# EAGLE library part PIC32MX450F256L-80I_PT (library zenpirate)
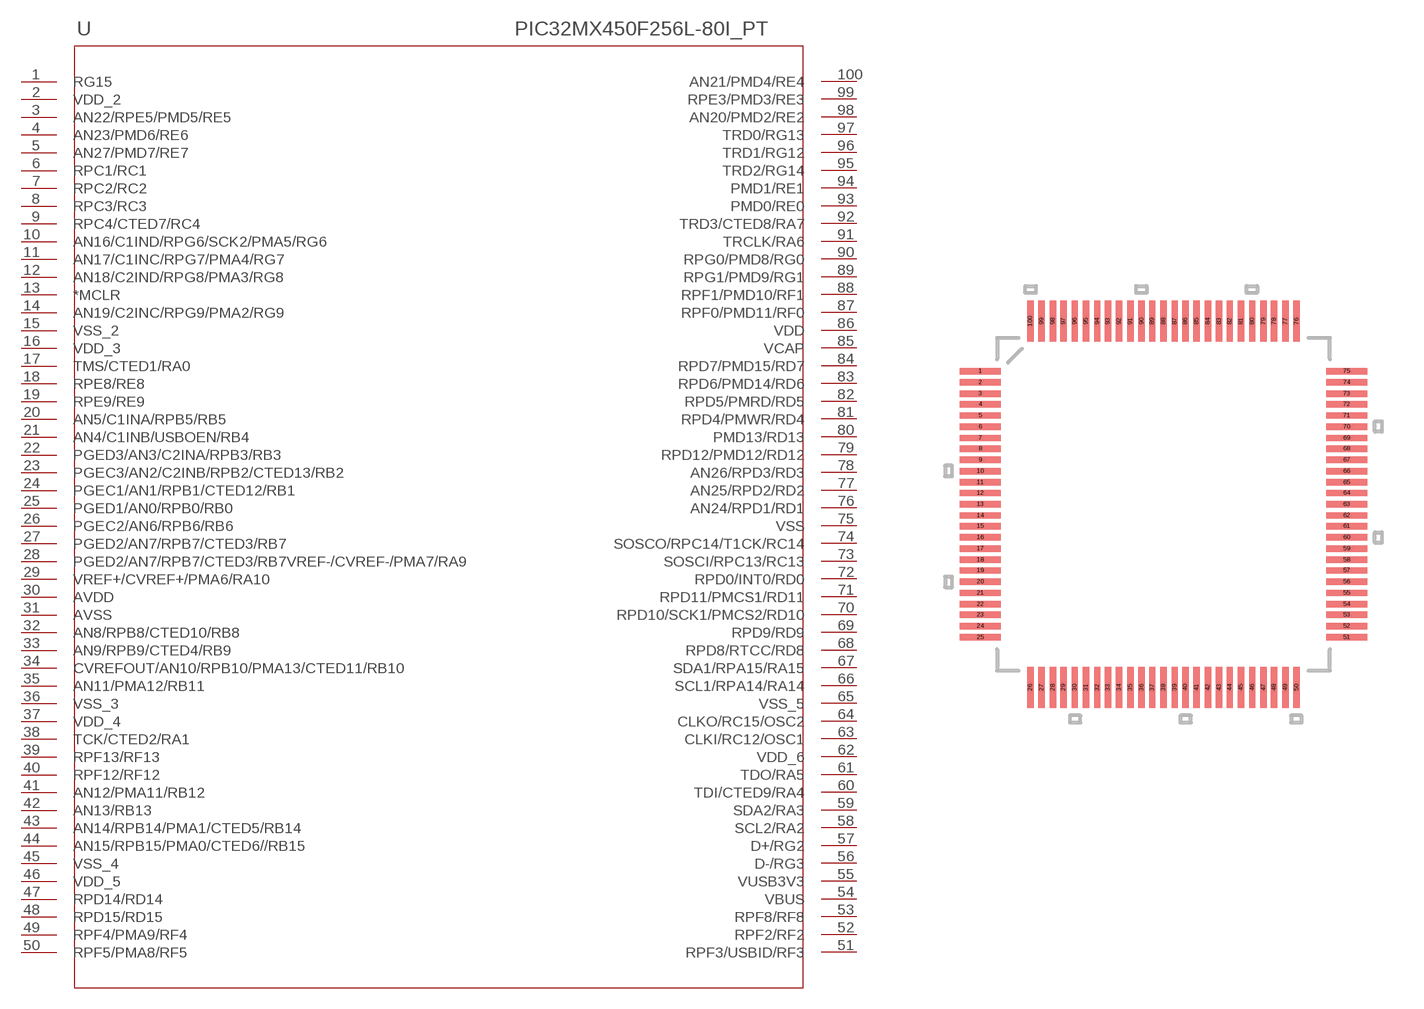
[diagram p3: symbol with the pads of TQFP100_12X12MC; footprint TQFP100_12X12MC]

Designator prefix U

## PIC32MX450F256L-80I_PT  [TQFP100_12X12MC]
1  RG15
2  VDD_2  pwr
3  AN22/RPE5/PMD5/RE5
4  AN23/PMD6/RE6
5  AN27/PMD7/RE7
6  RPC1/RC1
7  RPC2/RC2
8  RPC3/RC3
9  RPC4/CTED7/RC4
10  AN16/C1IND/RPG6/SCK2/PMA5/RG6
11  AN17/C1INC/RPG7/PMA4/RG7
12  AN18/C2IND/RPG8/PMA3/RG8
13  *MCLR  in
14  AN19/C2INC/RPG9/PMA2/RG9
15  VSS_2  pwr
16  VDD_3  pwr
17  TMS/CTED1/RA0
18  RPE8/RE8
19  RPE9/RE9
20  AN5/C1INA/RPB5/RB5
21  AN4/C1INB/USBOEN/RB4
22  PGED3/AN3/C2INA/RPB3/RB3
23  PGEC3/AN2/C2INB/RPB2/CTED13/RB2
24  PGEC1/AN1/RPB1/CTED12/RB1
25  PGED1/AN0/RPB0/RB0
26  PGEC2/AN6/RPB6/RB6
27  PGED2/AN7/RPB7/CTED3/RB7
28  PGED2/AN7/RPB7/CTED3/RB7VREF-/CVREF-/PMA7/RA9
29  VREF+/CVREF+/PMA6/RA10
30  AVDD  pwr
31  AVSS  pwr
32  AN8/RPB8/CTED10/RB8
33  AN9/RPB9/CTED4/RB9
34  CVREFOUT/AN10/RPB10/PMA13/CTED11/RB10
35  AN11/PMA12/RB11
36  VSS_3  pwr
37  VDD_4  pwr
38  TCK/CTED2/RA1
39  RPF13/RF13
40  RPF12/RF12
41  AN12/PMA11/RB12
42  AN13/RB13
43  AN14/RPB14/PMA1/CTED5/RB14
44  AN15/RPB15/PMA0/CTED6//RB15
45  VSS_4  pwr
46  VDD_5  pwr
47  RPD14/RD14
48  RPD15/RD15
49  RPF4/PMA9/RF4
50  RPF5/PMA8/RF5
51  RPF3/USBID/RF3
52  RPF2/RF2
53  RPF8/RF8
54  VBUS  pwr
55  VUSB3V3  pwr
56  D-/RG3
57  D+/RG2
58  SCL2/RA2
59  SDA2/RA3
60  TDI/CTED9/RA4
61  TDO/RA5
62  VDD_6  pwr
63  CLKI/RC12/OSC1
64  CLKO/RC15/OSC2
65  VSS_5  pwr
66  SCL1/RPA14/RA14
67  SDA1/RPA15/RA15
68  RPD8/RTCC/RD8
69  RPD9/RD9
70  RPD10/SCK1/PMCS2/RD10
71  RPD11/PMCS1/RD11
72  RPD0/INT0/RD0
73  SOSCI/RPC13/RC13
74  SOSCO/RPC14/T1CK/RC14
75  VSS  pwr
76  AN24/RPD1/RD1
77  AN25/RPD2/RD2
78  AN26/RPD3/RD3
79  RPD12/PMD12/RD12
80  PMD13/RD13
81  RPD4/PMWR/RD4
82  RPD5/PMRD/RD5
83  RPD6/PMD14/RD6
84  RPD7/PMD15/RD7
85  VCAP  pwr
86  VDD  pwr
87  RPF0/PMD11/RF0
88  RPF1/PMD10/RF1
89  RPG1/PMD9/RG1
90  RPG0/PMD8/RG0
91  TRCLK/RA6
92  TRD3/CTED8/RA7
93  PMD0/RE0
94  PMD1/RE1
95  TRD2/RG14
96  TRD1/RG12
97  TRD0/RG13
98  AN20/PMD2/RE2
99  RPE3/PMD3/RE3
100  AN21/PMD4/RE4

## Footprint TQFP100_12X12MC (pad centres in mm)
smd 1.473 x 0.229: 1 -6.604,4.801; 2 -6.604,4.394; 3 -6.604,3.988; 4 -6.604,3.607; 5 -6.604,3.2; 6 -6.604,2.794; 7 -6.604,2.388; 8 -6.604,2.007; 9 -6.604,1.6; 10 -6.604,1.194; 11 -6.604,0.787; 12 -6.604,0.406; 13 -6.604,0; 14 -6.604,-0.406; 15 -6.604,-0.787; 16 -6.604,-1.194; 17 -6.604,-1.6; 18 -6.604,-2.007; 19 -6.604,-2.388; 20 -6.604,-2.794; 21 -6.604,-3.2; 22 -6.604,-3.607; 23 -6.604,-3.988; 24 -6.604,-4.394; 25 -6.604,-4.801; 51 6.604,-4.801; 52 6.604,-4.394; 53 6.604,-3.988; 54 6.604,-3.607; 55 6.604,-3.2; 56 6.604,-2.794; 57 6.604,-2.388; 58 6.604,-2.007; 59 6.604,-1.6; 60 6.604,-1.194; 61 6.604,-0.787; 62 6.604,-0.406; 63 6.604,0; 64 6.604,0.406; 65 6.604,0.787; 66 6.604,1.194; 67 6.604,1.6; 68 6.604,2.007; 69 6.604,2.388; 70 6.604,2.794; 71 6.604,3.2; 72 6.604,3.607; 73 6.604,3.988; 74 6.604,4.394; 75 6.604,4.801
smd 0.229 x 1.473: 26 -4.801,-6.604; 27 -4.394,-6.604; 28 -3.988,-6.604; 29 -3.607,-6.604; 30 -3.2,-6.604; 31 -2.794,-6.604; 32 -2.388,-6.604; 33 -2.007,-6.604; 34 -1.6,-6.604; 35 -1.194,-6.604; 36 -0.787,-6.604; 37 -0.406,-6.604; 38 0,-6.604; 39 0.406,-6.604; 40 0.787,-6.604; 41 1.194,-6.604; 42 1.6,-6.604; 43 2.007,-6.604; 44 2.388,-6.604; 45 2.794,-6.604; 46 3.2,-6.604; 47 3.607,-6.604; 48 3.988,-6.604; 49 4.394,-6.604; 50 4.801,-6.604; 76 4.801,6.604; 77 4.394,6.604; 78 3.988,6.604; 79 3.607,6.604; 80 3.2,6.604; 81 2.794,6.604; 82 2.388,6.604; 83 2.007,6.604; 84 1.6,6.604; 85 1.194,6.604; 86 0.787,6.604; 87 0.406,6.604; 88 0,6.604; 89 -0.406,6.604; 90 -0.787,6.604; 91 -1.194,6.604; 92 -1.6,6.604; 93 -2.007,6.604; 94 -2.388,6.604; 95 -2.794,6.604; 96 -3.2,6.604; 97 -3.607,6.604; 98 -3.988,6.604; 99 -4.394,6.604; 100 -4.801,6.604